# Altium schematic symbol library IEXP.Schlib: 1 symbol
Pins are listed as number, name and electrical type; pins without a type are passive.

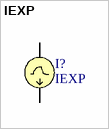
[diagram p0: symbol IEXP]

## IEXP
designator I?
Exponential Current Source
pins: 1, 2